# EAGLE library part CAT24C256W (library vttay03_custom)
256 kb Serial CMOS EEPROM
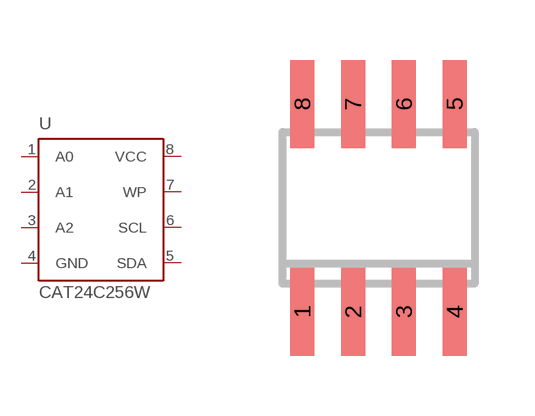
[diagram p1: symbol with the pads of SO08; footprint SO08]

Designator prefix -

## CAT24C256W  [SO08]
1  A0  in
2  A1  in
3  A2  in
4  GND  pwr
5  SDA
6  SCL
7  WP  in
8  VCC  pwr

## Footprint SO08 (pad centres in mm)
Small Outline Package 8 NS Package M08A
smd 0.6 x 2.2: 1 -1.905,-2.6; 2 -0.635,-2.6; 3 0.635,-2.6; 4 1.905,-2.6; 5 1.905,2.6; 6 0.635,2.6; 7 -0.635,2.6; 8 -1.905,2.6